# Altium integrated library NSC Switcher.IntLib: 922 symbols (part 13 of 24)
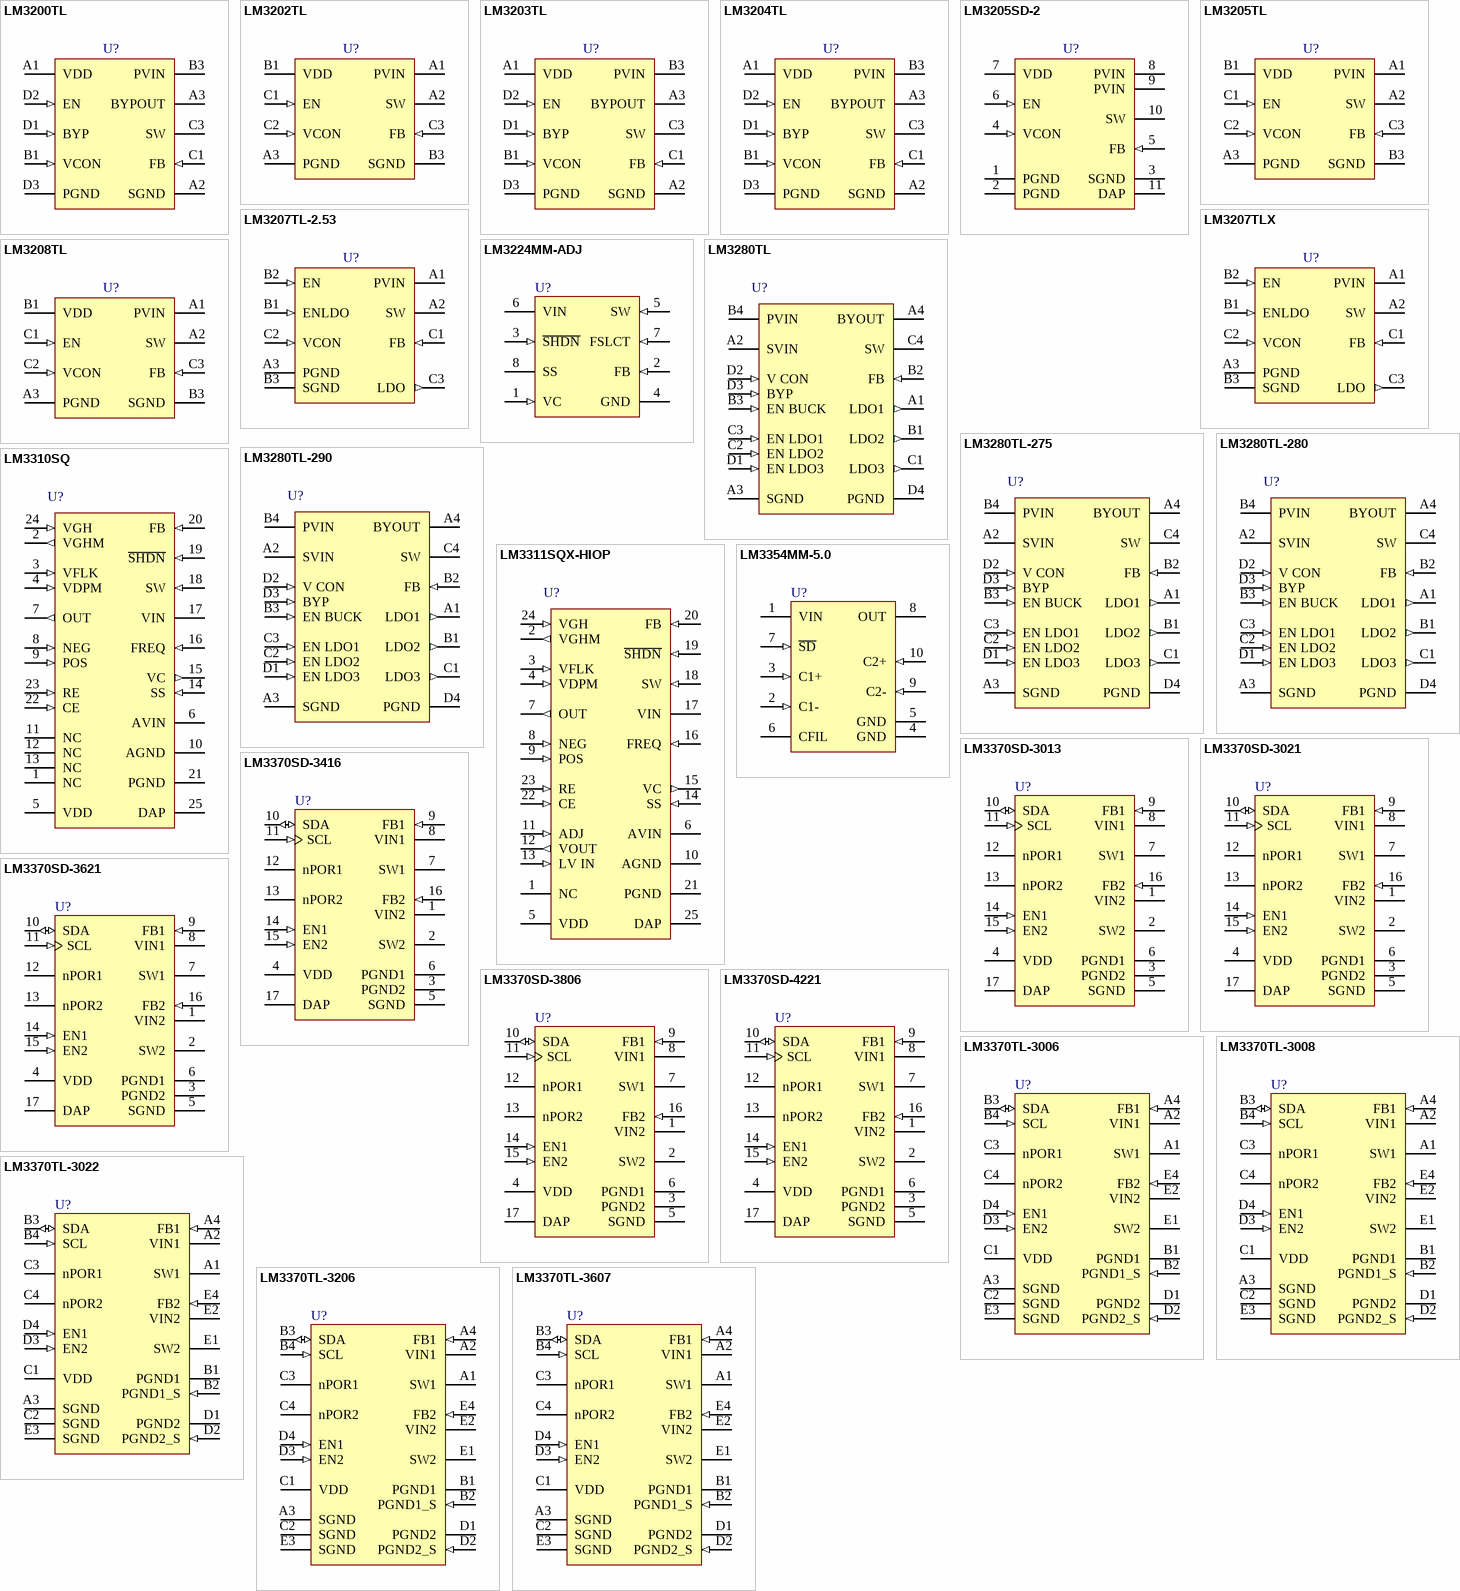
[diagram p40: symbols LM3200TL to LM3370TL-3607]

## LM3280TL-280
designator U?
Adjustable Step-Down DC-DC Converter and 3 LDOs for RF Power Management; PartNumber: LM3280TL-280; Manufacturer: National Semiconductor; CompType: Switcher; PackageTopMarking: XYTT*I V003; FirstPublished: 4-Dec-2008; DatasheetVersion: Jan-2007; PackageVersion: revC, Jan-2004; PackageReference: TLA16QQA; Publisher: Altium Limited; PackageDescription: Thin Micro SMD, 16 Bump (Large), 0.5mm Pitch; RoHS: Y; PinCount: 16; DigiKeyPartNumber: LM3280TL-280CT-ND; Code_JEDEC: MO-211-DF; ComponentLink1Description: LM3280 Datasheet; ComponentLink1URL: http://www.national.com/ds/LM/LM3280.pdf; ComponentLink2Description: LM3280 Web Page; ComponentLink2URL: http://www.national.com/pf/LM/LM3280.html; ComponentLink3Description: TLA16QQA Package Drawing; ComponentLink3URL: http://www.national.com/packaging/folders/tla16qqa.html
footprint TLA16QQA (Micro SMD, 16-Leads, Body 2.35x2.35mm, Pitch 0.5mm, NSC Recommended)
pins: A1 LDO1 (out), A2 SVIN (power), A3 SGND (power), A4 BYOUT (oc), B1 LDO2 (out), B2 FB (in), B3 EN BUCK (in), B4 PVIN (power), C1 LDO3 (out), C2 EN LDO2 (in), C3 EN LDO1 (in), C4 SW (power), D1 EN LDO3 (in), D2 V CON (in), D3 BYP (in), D4 PGND (power)

## LM3280TL-290
designator U?
Adjustable Step-Down DC-DC Converter and 3 LDOs for RF Power Management; PartNumber: LM3280TL-290; Manufacturer: National Semiconductor; CompType: Switcher; PackageTopMarking: XYTT*I V004; FirstPublished: 4-Dec-2008; DatasheetVersion: Jan-2007; PackageVersion: revC, Jan-2004; PackageReference: TLA16QQA; Publisher: Altium Limited; PackageDescription: Thin Micro SMD, 16 Bump (Large), 0.5mm Pitch; RoHS: Y; PinCount: 16; DigiKeyPartNumber: LM3280TL-290CT-ND; Code_JEDEC: MO-211-DF; ComponentLink1Description: LM3280 Datasheet; ComponentLink1URL: http://www.national.com/ds/LM/LM3280.pdf; ComponentLink2Description: LM3280 Web Page; ComponentLink2URL: http://www.national.com/pf/LM/LM3280.html; ComponentLink3Description: TLA16QQA Package Drawing; ComponentLink3URL: http://www.national.com/packaging/folders/tla16qqa.html
footprint TLA16QQA (Micro SMD, 16-Leads, Body 2.35x2.35mm, Pitch 0.5mm, NSC Recommended)
pins: A1 LDO1 (out), A2 SVIN (power), A3 SGND (power), A4 BYOUT (oc), B1 LDO2 (out), B2 FB (in), B3 EN BUCK (in), B4 PVIN (power), C1 LDO3 (out), C2 EN LDO2 (in), C3 EN LDO1 (in), C4 SW (power), D1 EN LDO3 (in), D2 V CON (in), D3 BYP (in), D4 PGND (power)

## LM3310SQ
designator U?
Step-Up PWM DC/DC Converter with Integrated Op-Amp and Gate Pulse Modulation Switch; PartNumber: LM3310SQ; Manufacturer: National Semiconductor; CompType: Switcher; PackageTopMarking: NS*UZXYTT*L3310SQ; FirstPublished: 4-Dec-2008; DatasheetVersion: Nov-2007; PackageVersion: revB, Aug-2003; PackageReference: SQA24A; Publisher: Altium Limited; PackageDescription: LLP, Plastic, Quad, 4 x 4 x 0.8mm Body, 24 Lead, 0.5mm Pitch, No Pullback; RoHS: Y; PinCount: 24; DigiKeyPartNumber: LM3310SQCT-ND; Code_JEDEC: MO-220-WGGD-6; ComponentLink1Description: LM3310 Datasheet; ComponentLink1URL: http://www.national.com/ds/LM/LM3310.pdf; ComponentLink2Description: LM3310 Web Page; ComponentLink2URL: http://www.national.com/pf/LM/LM3310.html; ComponentLink3Description: SQA24A Package Drawing; ComponentLink3URL: http://www.national.com/packaging/folders/sqa24a.html
footprint SQA24A (QFN, 24-Leads, Body 4x4mm, Pitch 0.5mm, NSC Recommended)
pins: 1 NC, 2 VGHM (out), 3 VFLK (in), 4 VDPM (in), 5 VDD (power), 6 AVIN (power), 7 OUT (out), 8 NEG (in), 9 POS (in), 10 AGND (power), 11 NC, 12 NC, 13 NC, 14 SS (in), 15 VC (out), 16 FREQ (in), 17 VIN (power), 18 SW (in), 19 ~{SHDN} (in), 20 FB (in), 21 PGND (power), 22 CE (in), 23 RE (in), 24 VGH (in), 25 DAP (power)

## LM3311SQX-HIOP
designator U?
Step-Up PWM DC/DC Converter with Integrated LDO, Op-Amp, and Gate Pulse Modulation Switch; PartNumber: LM3311SQX-HIOP; Manufacturer: National Semiconductor; CompType: Switcher; PackageTopMarking: NS*UZXYTT*L3311HP; FirstPublished: 4-Dec-2008; DatasheetVersion: Nov-2007; PackageVersion: revB, Aug-2003; PackageReference: SQA24A; Publisher: Altium Limited; PackageDescription: LLP, Plastic, Quad, 4 x 4 x 0.8mm Body, 24 Lead, 0.5mm Pitch, No Pullback; RoHS: Y; PinCount: 24; DigiKeyPartNumber: LM3311SQX-HIOP-ND; Code_JEDEC: MO-220-WGGD-6; ComponentLink1Description: LM3311 Datasheet; ComponentLink1URL: http://www.national.com/ds/LM/LM3311.pdf; ComponentLink2Description: LM3311 Web Page; ComponentLink2URL: http://www.national.com/pf/LM/LM3311.html; ComponentLink3Description: SQA24A Package Drawing; ComponentLink3URL: http://www.national.com/packaging/folders/sqa24a.html
footprint SQA24A (QFN, 24-Leads, Body 4x4mm, Pitch 0.5mm, NSC Recommended)
pins: 1 NC, 2 VGHM (out), 3 VFLK (in), 4 VDPM (in), 5 VDD (power), 6 AVIN (power), 7 OUT (out), 8 NEG (in), 9 POS (in), 10 AGND (power), 11 ADJ (in), 12 VOUT (out), 13 LV IN (in), 14 SS (in), 15 VC (out), 16 FREQ (in), 17 VIN (power), 18 SW (in), 19 ~{SHDN} (in), 20 FB (in), 21 PGND (power), 22 CE (in), 23 RE (in), 24 VGH (in), 25 DAP (power)

## LM3354MM-5.0
designator U?
Regulated 90mA Buck-Boost Switched Capacitor DC/DC Converter; PartNumber: LM3354MM-5.0; Manufacturer: National Semiconductor; CompType: Switcher; PackageTopMarking: ZXTT*S54B; FirstPublished: 4-Dec-2008; DatasheetVersion: Sep-2002; PackageVersion: revB, Jul-2003; PackageReference: MUB10A; Publisher: Altium Limited; PackageDescription: Mini-SO, Molded, .118 x .118 x .034in Body, 10 Lead, .0197in Pitch; RoHS: O; PinCount: 10; DigiKeyPartNumber: LM3354MM-5.0CT-ND; Code_JEDEC: MO-187-BA; ComponentLink1Description: LM3354 Datasheet; ComponentLink1URL: http://www.national.com/ds/LM/LM3354.pdf; ComponentLink2Description: LM3354 Web Page; ComponentLink2URL: http://www.national.com/pf/LM/LM3354.html; ComponentLink3Description: MUB10A Package Drawing; ComponentLink3URL: http://www.national.com/packaging/folders/mub10a.html
footprint MUB10A_N (TSSOP, 10-Leads, Body 3x3mm, Pitch 0.5mm, IPC Medium Density)
footprint MUB10A_L (TSSOP, 10-Leads, Body 3x3mm, Pitch 0.5mm, IPC High Density)
footprint MUB10A_M (TSSOP, 10-Leads, Body 3x3mm, Pitch 0.5mm, IPC Low Density)
pins: 1 VIN (power), 2 C1- (in), 3 C1+ (in), 4 GND (power), 5 GND (power), 6 CFIL, 7 ~{SD} (in), 8 OUT (power), 9 C2- (in), 10 C2+ (in)

## LM3370SD-3013
designator U?
Dual Synchronous Step-Down DC-DC Converter with Dynamic Voltage Scaling Function; PartNumber: LM3370SD-3013; Manufacturer: National Semiconductor; CompType: Switcher; PackageTopMarking: NS*UZXYTT*S0003UB; FirstPublished: 4-Dec-2008; DatasheetVersion: Jan-2008; PackageVersion: revA, Dec-2004; PackageReference: SDA16B; Publisher: Altium Limited; PackageDescription: LLP, Plastic, Dual, 5 x 4 x 0.8mm, 16 Lead, 0.5mm Pitch, No Pullback; RoHS: Y; PinCount: 16; DigiKeyPartNumber: LM3370SD-3013CT-ND; ComponentLink1Description: LM3370 Datasheet; ComponentLink1URL: http://www.national.com/ds/LM/LM3370.pdf; ComponentLink2Description: LM3370 Web Page; ComponentLink2URL: http://www.national.com/pf/LM/LM3370.html; ComponentLink3Description: SDA16B Package Drawing; ComponentLink3URL: http://www.national.com/packaging/folders/sda16b.html
footprint SDA16B (SON, 16-Leads, Body 5x4mm, Pitch 0.5mm, NSC Recommended)
pins: 1 VIN2 (power) "Power supply voltage input to PFET and NFET switches for Buck 2", 2 SW2 (power) "Buck 2 Switch Pin", 3 PGND2 (power) "Buck 2 Power Ground", 4 VDD (power) "Signal supply voltage input, VDDmust be equal or greater of the two inputs (VIN1& VIN2)", 5 SGND (power) "Signal GND", 6 PGND1 (power) "Buck 1 Power Ground", 7 SW1 (power) "Buck 1 Switch Pin", 8 VIN1 (power) "Power supply voltage input to PFET and NFET switches for Buck 1", 9 FB1 (in) "Analog Feedback Input for Buck 1", 10 SDA (io) "I2C Compatible Data, a 2 kOhm pull up resistor is required", 11 SCL (in) "I2C Compatible Clock, a 2 kOhm pull up resistor is required", 12 nPOR1 (oc) "Power ON Reset for Buck 1, Open drain output Low when Buck 1 output is 92% of target output.", 13 nPOR2 (oc) "Power ON Reset for Buck 2, Open drain output Low when Buck 2 output is 92% of target output.", 14 EN1 (in) "Buck 1 Enable", 15 EN2 (in) "Buck 2 Enable", 16 FB2 (in) "Analog feedback for Buck 2", 17 DAP (power)

## LM3370SD-3021
designator U?
Dual Synchronous Step-Down DC-DC Converter with Dynamic Voltage Scaling Function; PartNumber: LM3370SD-3021; Manufacturer: National Semiconductor; CompType: Switcher; PackageTopMarking: NS*UZXYTT*S0003TB; FirstPublished: 4-Dec-2008; DatasheetVersion: Jan-2008; PackageVersion: revA, Dec-2004; PackageReference: SDA16B; Publisher: Altium Limited; PackageDescription: LLP, Plastic, Dual, 5 x 4 x 0.8mm, 16 Lead, 0.5mm Pitch, No Pullback; RoHS: Y; PinCount: 16; DigiKeyPartNumber: LM3370SD-3021EV-ND; ComponentLink1Description: LM3370 Datasheet; ComponentLink1URL: http://www.national.com/ds/LM/LM3370.pdf; ComponentLink2Description: LM3370 Web Page; ComponentLink2URL: http://www.national.com/pf/LM/LM3370.html; ComponentLink3Description: SDA16B Package Drawing; ComponentLink3URL: http://www.national.com/packaging/folders/sda16b.html
footprint SDA16B (SON, 16-Leads, Body 5x4mm, Pitch 0.5mm, NSC Recommended)
pins: 1 VIN2 (power) "Power supply voltage input to PFET and NFET switches for Buck 2", 2 SW2 (power) "Buck 2 Switch Pin", 3 PGND2 (power) "Buck 2 Power Ground", 4 VDD (power) "Signal supply voltage input, VDDmust be equal or greater of the two inputs (VIN1& VIN2)", 5 SGND (power) "Signal GND", 6 PGND1 (power) "Buck 1 Power Ground", 7 SW1 (power) "Buck 1 Switch Pin", 8 VIN1 (power) "Power supply voltage input to PFET and NFET switches for Buck 1", 9 FB1 (in) "Analog Feedback Input for Buck 1", 10 SDA (io) "I2C Compatible Data, a 2 kOhm pull up resistor is required", 11 SCL (in) "I2C Compatible Clock, a 2 kOhm pull up resistor is required", 12 nPOR1 (oc) "Power ON Reset for Buck 1, Open drain output Low when Buck 1 output is 92% of target output.", 13 nPOR2 (oc) "Power ON Reset for Buck 2, Open drain output Low when Buck 2 output is 92% of target output.", 14 EN1 (in) "Buck 1 Enable", 15 EN2 (in) "Buck 2 Enable", 16 FB2 (in) "Analog feedback for Buck 2", 17 DAP (power)

## LM3370SD-3416
designator U?
Dual Synchronous Step-Down DC-DC Converter with Dynamic Voltage Scaling Function; PartNumber: LM3370SD-3416; Manufacturer: National Semiconductor; CompType: Switcher; PackageTopMarking: NS*UZXYTT*S0003VB; FirstPublished: 4-Dec-2008; DatasheetVersion: Jan-2008; PackageVersion: revA, Dec-2004; PackageReference: SDA16B; Publisher: Altium Limited; PackageDescription: LLP, Plastic, Dual, 5 x 4 x 0.8mm, 16 Lead, 0.5mm Pitch, No Pullback; RoHS: Y; PinCount: 16; DigiKeyPartNumber: LM3370SD-3416CT-ND; ComponentLink1Description: LM3370 Datasheet; ComponentLink1URL: http://www.national.com/ds/LM/LM3370.pdf; ComponentLink2Description: LM3370 Web Page; ComponentLink2URL: http://www.national.com/pf/LM/LM3370.html; ComponentLink3Description: SDA16B Package Drawing; ComponentLink3URL: http://www.national.com/packaging/folders/sda16b.html
footprint SDA16B (SON, 16-Leads, Body 5x4mm, Pitch 0.5mm, NSC Recommended)
pins: 1 VIN2 (power) "Power supply voltage input to PFET and NFET switches for Buck 2", 2 SW2 (power) "Buck 2 Switch Pin", 3 PGND2 (power) "Buck 2 Power Ground", 4 VDD (power) "Signal supply voltage input, VDDmust be equal or greater of the two inputs (VIN1& VIN2)", 5 SGND (power) "Signal GND", 6 PGND1 (power) "Buck 1 Power Ground", 7 SW1 (power) "Buck 1 Switch Pin", 8 VIN1 (power) "Power supply voltage input to PFET and NFET switches for Buck 1", 9 FB1 (in) "Analog Feedback Input for Buck 1", 10 SDA (io) "I2C Compatible Data, a 2 kOhm pull up resistor is required", 11 SCL (in) "I2C Compatible Clock, a 2 kOhm pull up resistor is required", 12 nPOR1 (oc) "Power ON Reset for Buck 1, Open drain output Low when Buck 1 output is 92% of target output.", 13 nPOR2 (oc) "Power ON Reset for Buck 2, Open drain output Low when Buck 2 output is 92% of target output.", 14 EN1 (in) "Buck 1 Enable", 15 EN2 (in) "Buck 2 Enable", 16 FB2 (in) "Analog feedback for Buck 2", 17 DAP (power)

## LM3370SD-3621
designator U?
Dual Synchronous Step-Down DC-DC Converter with Dynamic Voltage Scaling Function; PartNumber: LM3370SD-3621; Manufacturer: National Semiconductor; CompType: Switcher; PackageTopMarking: NS*UZXYTT*S0004AB; FirstPublished: 4-Dec-2008; DatasheetVersion: Jan-2008; PackageVersion: revA, Dec-2004; PackageReference: SDA16B; Publisher: Altium Limited; PackageDescription: LLP, Plastic, Dual, 5 x 4 x 0.8mm, 16 Lead, 0.5mm Pitch, No Pullback; RoHS: Y; PinCount: 16; DigiKeyPartNumber: LM3370SD-3621-ND; ComponentLink1Description: LM3370 Datasheet; ComponentLink1URL: http://www.national.com/ds/LM/LM3370.pdf; ComponentLink2Description: LM3370 Web Page; ComponentLink2URL: http://www.national.com/pf/LM/LM3370.html; ComponentLink3Description: SDA16B Package Drawing; ComponentLink3URL: http://www.national.com/packaging/folders/sda16b.html
footprint SDA16B (SON, 16-Leads, Body 5x4mm, Pitch 0.5mm, NSC Recommended)
pins: 1 VIN2 (power) "Power supply voltage input to PFET and NFET switches for Buck 2", 2 SW2 (power) "Buck 2 Switch Pin", 3 PGND2 (power) "Buck 2 Power Ground", 4 VDD (power) "Signal supply voltage input, VDDmust be equal or greater of the two inputs (VIN1& VIN2)", 5 SGND (power) "Signal GND", 6 PGND1 (power) "Buck 1 Power Ground", 7 SW1 (power) "Buck 1 Switch Pin", 8 VIN1 (power) "Power supply voltage input to PFET and NFET switches for Buck 1", 9 FB1 (in) "Analog Feedback Input for Buck 1", 10 SDA (io) "I2C Compatible Data, a 2 kOhm pull up resistor is required", 11 SCL (in) "I2C Compatible Clock, a 2 kOhm pull up resistor is required", 12 nPOR1 (oc) "Power ON Reset for Buck 1, Open drain output Low when Buck 1 output is 92% of target output.", 13 nPOR2 (oc) "Power ON Reset for Buck 2, Open drain output Low when Buck 2 output is 92% of target output.", 14 EN1 (in) "Buck 1 Enable", 15 EN2 (in) "Buck 2 Enable", 16 FB2 (in) "Analog feedback for Buck 2", 17 DAP (power)

## LM3370SD-3806
designator U?
Dual Synchronous Step-Down DC-DC Converter with Dynamic Voltage Scaling Function; PartNumber: LM3370SD-3806; Manufacturer: National Semiconductor; CompType: Switcher; PackageTopMarking: NS*UZXYTT*S0003XB; FirstPublished: 4-Dec-2008; DatasheetVersion: Jan-2008; PackageVersion: revA, Dec-2004; PackageReference: SDA16B; Publisher: Altium Limited; PackageDescription: LLP, Plastic, Dual, 5 x 4 x 0.8mm, 16 Lead, 0.5mm Pitch, No Pullback; RoHS: Y; PinCount: 16; DigiKeyPartNumber: LM3370SD-3806CT-ND; ComponentLink1Description: LM3370 Datasheet; ComponentLink1URL: http://www.national.com/ds/LM/LM3370.pdf; ComponentLink2Description: LM3370 Web Page; ComponentLink2URL: http://www.national.com/pf/LM/LM3370.html; ComponentLink3Description: SDA16B Package Drawing; ComponentLink3URL: http://www.national.com/packaging/folders/sda16b.html
footprint SDA16B (SON, 16-Leads, Body 5x4mm, Pitch 0.5mm, NSC Recommended)
pins: 1 VIN2 (power) "Power supply voltage input to PFET and NFET switches for Buck 2", 2 SW2 (power) "Buck 2 Switch Pin", 3 PGND2 (power) "Buck 2 Power Ground", 4 VDD (power) "Signal supply voltage input, VDDmust be equal or greater of the two inputs (VIN1& VIN2)", 5 SGND (power) "Signal GND", 6 PGND1 (power) "Buck 1 Power Ground", 7 SW1 (power) "Buck 1 Switch Pin", 8 VIN1 (power) "Power supply voltage input to PFET and NFET switches for Buck 1", 9 FB1 (in) "Analog Feedback Input for Buck 1", 10 SDA (io) "I2C Compatible Data, a 2 kOhm pull up resistor is required", 11 SCL (in) "I2C Compatible Clock, a 2 kOhm pull up resistor is required", 12 nPOR1 (oc) "Power ON Reset for Buck 1, Open drain output Low when Buck 1 output is 92% of target output.", 13 nPOR2 (oc) "Power ON Reset for Buck 2, Open drain output Low when Buck 2 output is 92% of target output.", 14 EN1 (in) "Buck 1 Enable", 15 EN2 (in) "Buck 2 Enable", 16 FB2 (in) "Analog feedback for Buck 2", 17 DAP (power)

## LM3370SD-4221
designator U?
Dual Synchronous Step-Down DC-DC Converter with Dynamic Voltage Scaling Function; PartNumber: LM3370SD-4221; Manufacturer: National Semiconductor; CompType: Switcher; PackageTopMarking: NS*UZXYTT*S0003YB; FirstPublished: 4-Dec-2008; DatasheetVersion: Jan-2008; PackageVersion: revA, Dec-2004; PackageReference: SDA16B; Publisher: Altium Limited; PackageDescription: LLP, Plastic, Dual, 5 x 4 x 0.8mm, 16 Lead, 0.5mm Pitch, No Pullback; RoHS: Y; PinCount: 16; DigiKeyPartNumber: LM3370SD-4221CT-ND; ComponentLink1Description: LM3370 Datasheet; ComponentLink1URL: http://www.national.com/ds/LM/LM3370.pdf; ComponentLink2Description: LM3370 Web Page; ComponentLink2URL: http://www.national.com/pf/LM/LM3370.html; ComponentLink3Description: SDA16B Package Drawing; ComponentLink3URL: http://www.national.com/packaging/folders/sda16b.html
footprint SDA16B (SON, 16-Leads, Body 5x4mm, Pitch 0.5mm, NSC Recommended)
pins: 1 VIN2 (power) "Power supply voltage input to PFET and NFET switches for Buck 2", 2 SW2 (power) "Buck 2 Switch Pin", 3 PGND2 (power) "Buck 2 Power Ground", 4 VDD (power) "Signal supply voltage input, VDDmust be equal or greater of the two inputs (VIN1& VIN2)", 5 SGND (power) "Signal GND", 6 PGND1 (power) "Buck 1 Power Ground", 7 SW1 (power) "Buck 1 Switch Pin", 8 VIN1 (power) "Power supply voltage input to PFET and NFET switches for Buck 1", 9 FB1 (in) "Analog Feedback Input for Buck 1", 10 SDA (io) "I2C Compatible Data, a 2 kOhm pull up resistor is required", 11 SCL (in) "I2C Compatible Clock, a 2 kOhm pull up resistor is required", 12 nPOR1 (oc) "Power ON Reset for Buck 1, Open drain output Low when Buck 1 output is 92% of target output.", 13 nPOR2 (oc) "Power ON Reset for Buck 2, Open drain output Low when Buck 2 output is 92% of target output.", 14 EN1 (in) "Buck 1 Enable", 15 EN2 (in) "Buck 2 Enable", 16 FB2 (in) "Analog feedback for Buck 2", 17 DAP (power)

## LM3370TL-3006
designator U?
Dual Synchronous Step-Down DC-DC Converter with Dynamic Voltage Scaling Function; PartNumber: LM3370TL-3006; Manufacturer: National Semiconductor; CompType: Switcher; PackageTopMarking: XYTT*I SPUB; FirstPublished: 4-Dec-2008; DatasheetVersion: Jan-2008; PackageVersion: revD, 2008; PackageReference: TLA20CWA; Publisher: Altium Limited; PackageDescription: Thin Micro SMD, 20 Bump (Large), 0.5mm Pitch; RoHS: Y; PinCount: 20; DigiKeyPartNumber: LM3370TL-3006CT-ND; Code_JEDEC: MO-211-DG; ComponentLink1Description: LM3370 Datasheet; ComponentLink1URL: http://www.national.com/ds/LM/LM3370.pdf; ComponentLink2Description: LM3370 Web Page; ComponentLink2URL: http://www.national.com/pf/LM/LM3370.html; ComponentLink3Description: TLA20DWA Package Drawing; ComponentLink3URL: http://www.national.com/packaging/folders/tla20dwa.html
footprint TLA20CWA (Micro SMD, 20-Leads, Body 3x2.05mm, Pitch 0.5mm, NSC Recommended)
pins: A1 SW1 (power) "Buck 1 Switch Pin", A2 VIN1 (power) "Power supply voltage input to PFET and NFET switches for Buck 1", A3 SGND (power) "Signal GND", A4 FB1 (in) "Analog Feedback Input for Buck 1", B1 PGND1 (power) "Buck 1 Power Ground", B2 PGND1_S (in) "Buck 1 Power Ground Sense", B3 SDA (io) "I2C Compatible Data, a 2 kOhm pull up resistor is required", B4 SCL (in) "I2C Compatible Clock, a 2 kOhm pull up resistor is required", C1 VDD (power) "Signal supply voltage input.", C2 SGND (power) "Signal GND", C3 nPOR1 (oc) "Power ON Reset for Buck 1, Open drain output Low when Buck 1 output is 92% of target output.", C4 nPOR2 (oc) "Power ON Reset for Buck 2, Open drain output Low when Buck 2 output is 92% of target output.", D1 PGND2 (power) "Buck 2 Power Ground", D2 PGND2_S (in) "Buck 2 Power Ground Sense", D3 EN2 (in) "Buck 2 Enable", D4 EN1 (in) "Buck 1 Enable", E1 SW2 (power) "Buck 2 Switch Pin", E2 VIN2 (power) "Power supply voltage input to PFET and NFET switches for Buck 2", E3 SGND (power) "Signal GND", E4 FB2 (in) "Analog feedback for Buck 2"

## LM3370TL-3008
designator U?
Dual Synchronous Step-Down DC-DC Converter with Dynamic Voltage Scaling Function; PartNumber: LM3370TL-3008; Manufacturer: National Semiconductor; CompType: Switcher; PackageTopMarking: XYTT*I SPTB; FirstPublished: 4-Dec-2008; DatasheetVersion: Jan-2008; PackageVersion: revD, 2008; PackageReference: TLA20CWA; Publisher: Altium Limited; PackageDescription: Thin Micro SMD, 20 Bump (Large), 0.5mm Pitch; RoHS: Y; PinCount: 20; DigiKeyPartNumber: LM3370TL-3008EV-ND; Code_JEDEC: MO-211-DG; ComponentLink1Description: LM3370 Datasheet; ComponentLink1URL: http://www.national.com/ds/LM/LM3370.pdf; ComponentLink2Description: LM3370 Web Page; ComponentLink2URL: http://www.national.com/pf/LM/LM3370.html; ComponentLink3Description: TLA20DWA Package Drawing; ComponentLink3URL: http://www.national.com/packaging/folders/tla20dwa.html
footprint TLA20CWA (Micro SMD, 20-Leads, Body 3x2.05mm, Pitch 0.5mm, NSC Recommended)
pins: A1 SW1 (power) "Buck 1 Switch Pin", A2 VIN1 (power) "Power supply voltage input to PFET and NFET switches for Buck 1", A3 SGND (power) "Signal GND", A4 FB1 (in) "Analog Feedback Input for Buck 1", B1 PGND1 (power) "Buck 1 Power Ground", B2 PGND1_S (in) "Buck 1 Power Ground Sense", B3 SDA (io) "I2C Compatible Data, a 2 kOhm pull up resistor is required", B4 SCL (in) "I2C Compatible Clock, a 2 kOhm pull up resistor is required", C1 VDD (power) "Signal supply voltage input.", C2 SGND (power) "Signal GND", C3 nPOR1 (oc) "Power ON Reset for Buck 1, Open drain output Low when Buck 1 output is 92% of target output.", C4 nPOR2 (oc) "Power ON Reset for Buck 2, Open drain output Low when Buck 2 output is 92% of target output.", D1 PGND2 (power) "Buck 2 Power Ground", D2 PGND2_S (in) "Buck 2 Power Ground Sense", D3 EN2 (in) "Buck 2 Enable", D4 EN1 (in) "Buck 1 Enable", E1 SW2 (power) "Buck 2 Switch Pin", E2 VIN2 (power) "Power supply voltage input to PFET and NFET switches for Buck 2", E3 SGND (power) "Signal GND", E4 FB2 (in) "Analog feedback for Buck 2"

## LM3370TL-3022
designator U?
Dual Synchronous Step-Down DC-DC Converter with Dynamic Voltage Scaling Function; PartNumber: LM3370TL-3022; Manufacturer: National Semiconductor; CompType: Switcher; PackageTopMarking: XYTT*I STHB; FirstPublished: 4-Dec-2008; DatasheetVersion: Jan-2008; PackageVersion: revD, 2008; PackageReference: TLA20CWA; Publisher: Altium Limited; PackageDescription: Thin Micro SMD, 20 Bump (Large), 0.5mm Pitch; RoHS: Y; PinCount: 20; DigiKeyPartNumber: LM3370TL-3022CT-ND; Code_JEDEC: MO-211-DG; ComponentLink1Description: LM3370 Datasheet; ComponentLink1URL: http://www.national.com/ds/LM/LM3370.pdf; ComponentLink2Description: LM3370 Web Page; ComponentLink2URL: http://www.national.com/pf/LM/LM3370.html; ComponentLink3Description: TLA20DWA Package Drawing; ComponentLink3URL: http://www.national.com/packaging/folders/tla20dwa.html
footprint TLA20CWA (Micro SMD, 20-Leads, Body 3x2.05mm, Pitch 0.5mm, NSC Recommended)
pins: A1 SW1 (power) "Buck 1 Switch Pin", A2 VIN1 (power) "Power supply voltage input to PFET and NFET switches for Buck 1", A3 SGND (power) "Signal GND", A4 FB1 (in) "Analog Feedback Input for Buck 1", B1 PGND1 (power) "Buck 1 Power Ground", B2 PGND1_S (in) "Buck 1 Power Ground Sense", B3 SDA (io) "I2C Compatible Data, a 2 kOhm pull up resistor is required", B4 SCL (in) "I2C Compatible Clock, a 2 kOhm pull up resistor is required", C1 VDD (power) "Signal supply voltage input.", C2 SGND (power) "Signal GND", C3 nPOR1 (oc) "Power ON Reset for Buck 1, Open drain output Low when Buck 1 output is 92% of target output.", C4 nPOR2 (oc) "Power ON Reset for Buck 2, Open drain output Low when Buck 2 output is 92% of target output.", D1 PGND2 (power) "Buck 2 Power Ground", D2 PGND2_S (in) "Buck 2 Power Ground Sense", D3 EN2 (in) "Buck 2 Enable", D4 EN1 (in) "Buck 1 Enable", E1 SW2 (power) "Buck 2 Switch Pin", E2 VIN2 (power) "Power supply voltage input to PFET and NFET switches for Buck 2", E3 SGND (power) "Signal GND", E4 FB2 (in) "Analog feedback for Buck 2"

## LM3370TL-3206
designator U?
Dual Synchronous Step-Down DC-DC Converter with Dynamic Voltage Scaling Function; PartNumber: LM3370TL-3206; Manufacturer: National Semiconductor; CompType: Switcher; PackageTopMarking: XYTT*I SPXB; FirstPublished: 4-Dec-2008; DatasheetVersion: Jan-2008; PackageVersion: revD, 2008; PackageReference: TLA20CWA; Publisher: Altium Limited; PackageDescription: Thin Micro SMD, 20 Bump (Large), 0.5mm Pitch; RoHS: Y; PinCount: 20; DigiKeyPartNumber: LM3370TL-3206CT-ND; Code_JEDEC: MO-211-DG; ComponentLink1Description: LM3370 Datasheet; ComponentLink1URL: http://www.national.com/ds/LM/LM3370.pdf; ComponentLink2Description: LM3370 Web Page; ComponentLink2URL: http://www.national.com/pf/LM/LM3370.html; ComponentLink3Description: TLA20DWA Package Drawing; ComponentLink3URL: http://www.national.com/packaging/folders/tla20dwa.html
footprint TLA20CWA (Micro SMD, 20-Leads, Body 3x2.05mm, Pitch 0.5mm, NSC Recommended)
pins: A1 SW1 (power) "Buck 1 Switch Pin", A2 VIN1 (power) "Power supply voltage input to PFET and NFET switches for Buck 1", A3 SGND (power) "Signal GND", A4 FB1 (in) "Analog Feedback Input for Buck 1", B1 PGND1 (power) "Buck 1 Power Ground", B2 PGND1_S (in) "Buck 1 Power Ground Sense", B3 SDA (io) "I2C Compatible Data, a 2 kOhm pull up resistor is required", B4 SCL (in) "I2C Compatible Clock, a 2 kOhm pull up resistor is required", C1 VDD (power) "Signal supply voltage input.", C2 SGND (power) "Signal GND", C3 nPOR1 (oc) "Power ON Reset for Buck 1, Open drain output Low when Buck 1 output is 92% of target output.", C4 nPOR2 (oc) "Power ON Reset for Buck 2, Open drain output Low when Buck 2 output is 92% of target output.", D1 PGND2 (power) "Buck 2 Power Ground", D2 PGND2_S (in) "Buck 2 Power Ground Sense", D3 EN2 (in) "Buck 2 Enable", D4 EN1 (in) "Buck 1 Enable", E1 SW2 (power) "Buck 2 Switch Pin", E2 VIN2 (power) "Power supply voltage input to PFET and NFET switches for Buck 2", E3 SGND (power) "Signal GND", E4 FB2 (in) "Analog feedback for Buck 2"

## LM3370TL-3607
designator U?
Dual Synchronous Step-Down DC-DC Converter with Dynamic Voltage Scaling Function; PartNumber: LM3370TL-3607; Manufacturer: National Semiconductor; CompType: Switcher; PackageTopMarking: XYTT*I SPSB; FirstPublished: 4-Dec-2008; DatasheetVersion: Jan-2008; PackageVersion: revD, 2008; PackageReference: TLA20CWA; Publisher: Altium Limited; PackageDescription: Thin Micro SMD, 20 Bump (Large), 0.5mm Pitch; RoHS: Y; PinCount: 20; DigiKeyPartNumber: LM3370TL-3607CT-ND; Code_JEDEC: MO-211-DG; ComponentLink1Description: LM3370 Datasheet; ComponentLink1URL: http://www.national.com/ds/LM/LM3370.pdf; ComponentLink2Description: LM3370 Web Page; ComponentLink2URL: http://www.national.com/pf/LM/LM3370.html; ComponentLink3Description: TLA20DWA Package Drawing; ComponentLink3URL: http://www.national.com/packaging/folders/tla20dwa.html
footprint TLA20CWA (Micro SMD, 20-Leads, Body 3x2.05mm, Pitch 0.5mm, NSC Recommended)
pins: A1 SW1 (power) "Buck 1 Switch Pin", A2 VIN1 (power) "Power supply voltage input to PFET and NFET switches for Buck 1", A3 SGND (power) "Signal GND", A4 FB1 (in) "Analog Feedback Input for Buck 1", B1 PGND1 (power) "Buck 1 Power Ground", B2 PGND1_S (in) "Buck 1 Power Ground Sense", B3 SDA (io) "I2C Compatible Data, a 2 kOhm pull up resistor is required", B4 SCL (in) "I2C Compatible Clock, a 2 kOhm pull up resistor is required", C1 VDD (power) "Signal supply voltage input.", C2 SGND (power) "Signal GND", C3 nPOR1 (oc) "Power ON Reset for Buck 1, Open drain output Low when Buck 1 output is 92% of target output.", C4 nPOR2 (oc) "Power ON Reset for Buck 2, Open drain output Low when Buck 2 output is 92% of target output.", D1 PGND2 (power) "Buck 2 Power Ground", D2 PGND2_S (in) "Buck 2 Power Ground Sense", D3 EN2 (in) "Buck 2 Enable", D4 EN1 (in) "Buck 1 Enable", E1 SW2 (power) "Buck 2 Switch Pin", E2 VIN2 (power) "Power supply voltage input to PFET and NFET switches for Buck 2", E3 SGND (power) "Signal GND", E4 FB2 (in) "Analog feedback for Buck 2"

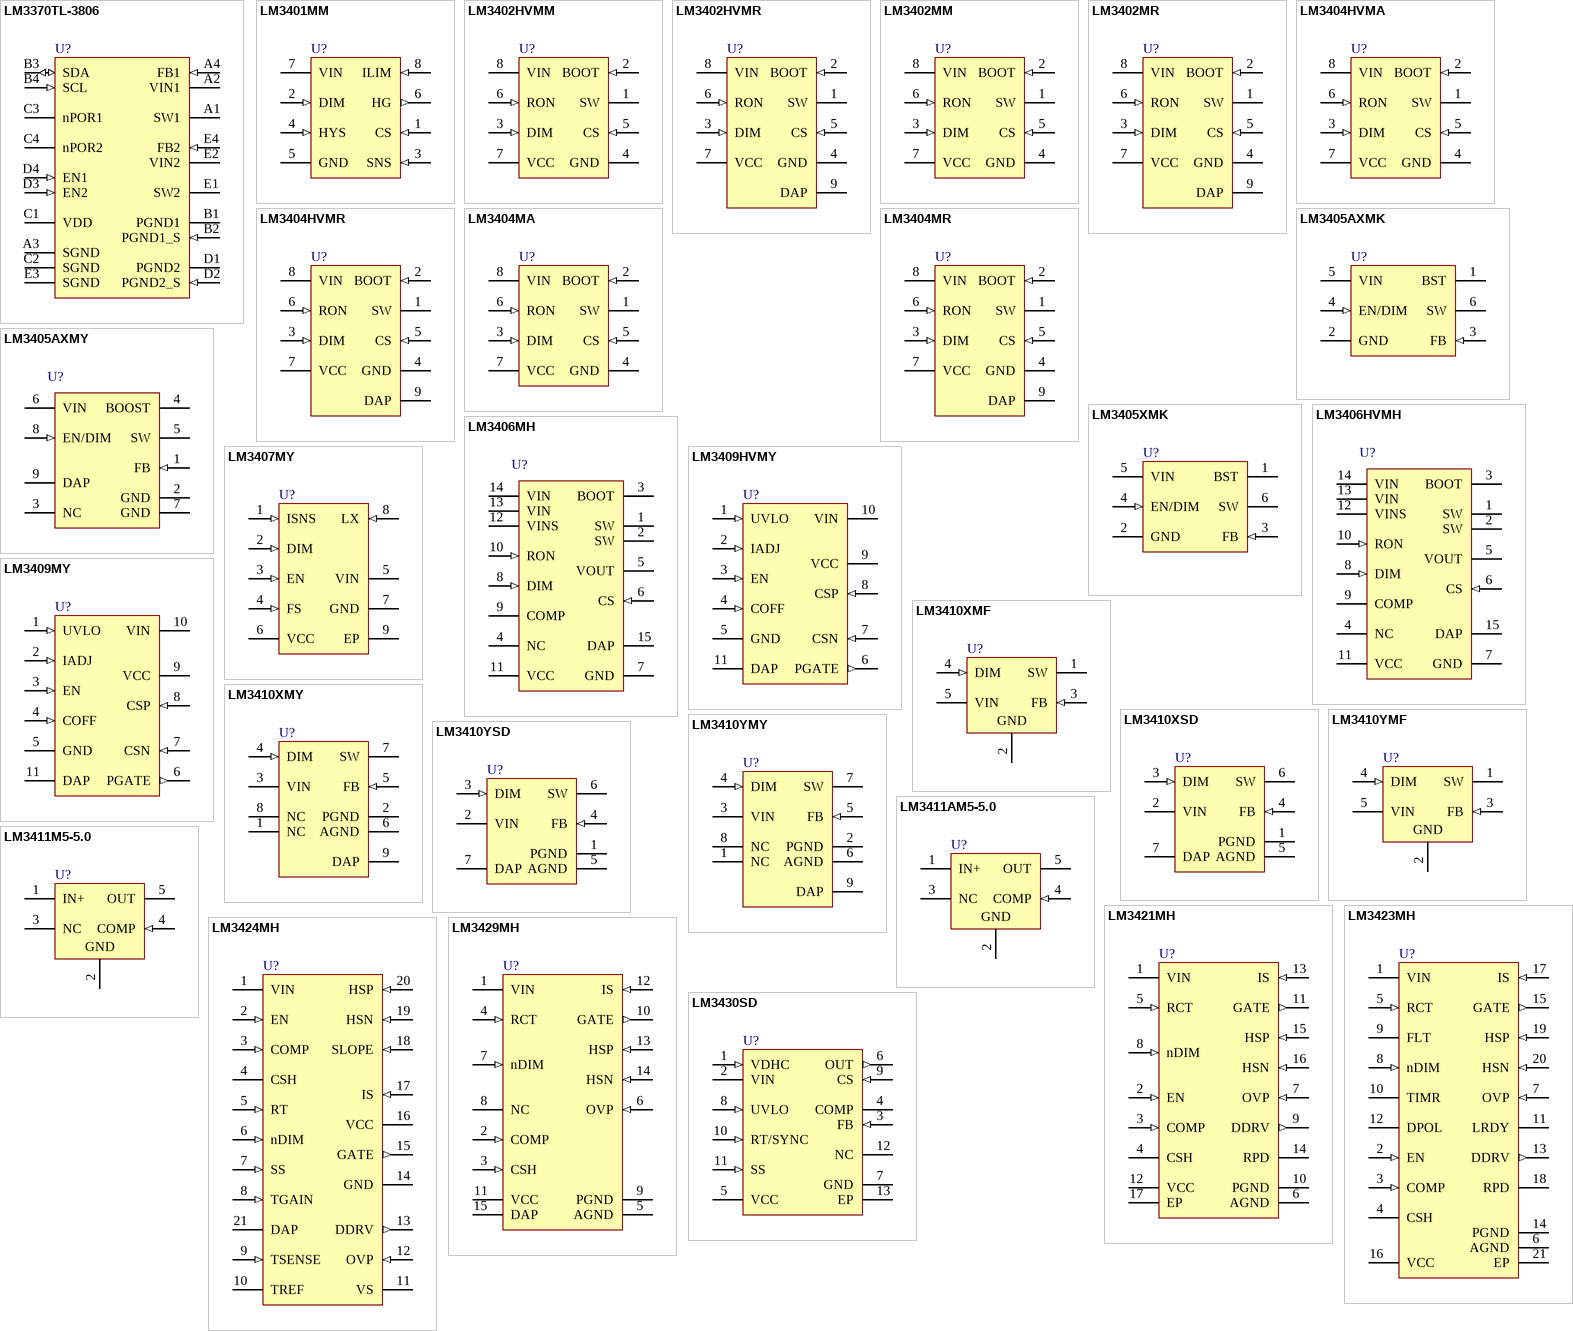
[diagram p15: symbols LM3370TL-3806 to LM3430SD]

## LM3370TL-3806
designator U?
Dual Synchronous Step-Down DC-DC Converter with Dynamic Voltage Scaling Function; PartNumber: LM3370TL-3806; Manufacturer: National Semiconductor; CompType: Switcher; PackageTopMarking: XYTT*I SPVB; FirstPublished: 4-Dec-2008; DatasheetVersion: Jan-2008; PackageVersion: revD, 2008; PackageReference: TLA20CWA; Publisher: Altium Limited; PackageDescription: Thin Micro SMD, 20 Bump (Large), 0.5mm Pitch; RoHS: Y; PinCount: 20; DigiKeyPartNumber: LM3370TL-3806CT-ND; Code_JEDEC: MO-211-DG; ComponentLink1Description: LM3370 Datasheet; ComponentLink1URL: http://www.national.com/ds/LM/LM3370.pdf; ComponentLink2Description: LM3370 Web Page; ComponentLink2URL: http://www.national.com/pf/LM/LM3370.html; ComponentLink3Description: TLA20DWA Package Drawing; ComponentLink3URL: http://www.national.com/packaging/folders/tla20dwa.html
footprint TLA20CWA (Micro SMD, 20-Leads, Body 3x2.05mm, Pitch 0.5mm, NSC Recommended)
pins: A1 SW1 (power) "Buck 1 Switch Pin", A2 VIN1 (power) "Power supply voltage input to PFET and NFET switches for Buck 1", A3 SGND (power) "Signal GND", A4 FB1 (in) "Analog Feedback Input for Buck 1", B1 PGND1 (power) "Buck 1 Power Ground", B2 PGND1_S (in) "Buck 1 Power Ground Sense", B3 SDA (io) "I2C Compatible Data, a 2 kOhm pull up resistor is required", B4 SCL (in) "I2C Compatible Clock, a 2 kOhm pull up resistor is required", C1 VDD (power) "Signal supply voltage input.", C2 SGND (power) "Signal GND", C3 nPOR1 (oc) "Power ON Reset for Buck 1, Open drain output Low when Buck 1 output is 92% of target output.", C4 nPOR2 (oc) "Power ON Reset for Buck 2, Open drain output Low when Buck 2 output is 92% of target output.", D1 PGND2 (power) "Buck 2 Power Ground", D2 PGND2_S (in) "Buck 2 Power Ground Sense", D3 EN2 (in) "Buck 2 Enable", D4 EN1 (in) "Buck 1 Enable", E1 SW2 (power) "Buck 2 Switch Pin", E2 VIN2 (power) "Power supply voltage input to PFET and NFET switches for Buck 2", E3 SGND (power) "Signal GND", E4 FB2 (in) "Analog feedback for Buck 2"

## LM3401MM
designator U?
Hysteretic PFET Controller for High Power LED Drive; PartNumber: LM3401MM; Manufacturer: National Semiconductor; CompType: Switcher; PackageTopMarking: ZXTT*SNHB; FirstPublished: 4-Dec-2008; DatasheetVersion: Mar-2008; PackageVersion: revF, Apr-2008; PackageReference: MUA08A; Publisher: Altium Limited; PackageDescription: MINI SOIC, .118 x .118 x .034in, 8 Lead, .0256in Pitch; RoHS: Y; PinCount: 8; DigiKeyPartNumber: LM3401MMCT-ND; Code_JEDEC: MO-187-AA; ComponentLink1Description: LM3401 Datasheet; ComponentLink1URL: http://www.national.com/ds/LM/LM3401.pdf; ComponentLink2Description: LM3401 Web Page; ComponentLink2URL: http://www.national.com/pf/LM/LM3401.html; ComponentLink3Description: MUA08A Package Drawing; ComponentLink3URL: http://www.national.com/packaging/folders/mua08a.html
footprint MUA08A_N (TSOP, 8-Leads, Body 3x3mm, Pitch 0.65mm, IPC Medium Density)
footprint MUA08A_L (TSOP, 8-Leads, Body 3x3mm, Pitch 0.65mm, IPC High Density)
footprint MUA08A_M (TSOP, 8-Leads, Body 3x3mm, Pitch 0.65mm, IPC Low Density)
pins: 1 CS (in), 2 DIM (in), 3 SNS (in), 4 HYS (in), 5 GND (power), 6 HG (out), 7 VIN (power), 8 ILIM (in)

## LM3402HVMM
designator U?
0.5A Constant Current Buck Regulator for High Power LED Drivers; PartNumber: LM3402HVMM; Manufacturer: National Semiconductor; CompType: Switcher; PackageTopMarking: ZXTT*SNFB; FirstPublished: 4-Dec-2008; DatasheetVersion: Jun-2007; PackageVersion: revF, Apr-2008; PackageReference: MUA08A; Publisher: Altium Limited; PackageDescription: MINI SOIC, .118 x .118 x .034in, 8 Lead, .0256in Pitch; RoHS: Y; PinCount: 8; DigiKeyPartNumber: LM3402HVMMCT-ND; Code_JEDEC: MO-187-AA; ComponentLink1Description: LM3402HV Datasheet; ComponentLink1URL: http://www.national.com/ds/LM/LM3402HV.pdf; ComponentLink2Description: LM3402HV Web Page; ComponentLink2URL: http://www.national.com/pf/LM/LM3402HV.html; ComponentLink3Description: MUA08A Package Drawing; ComponentLink3URL: http://www.national.com/packaging/folders/mua08a.html
footprint MUA08A_N (TSOP, 8-Leads, Body 3x3mm, Pitch 0.65mm, IPC Medium Density)
footprint MUA08A_L (TSOP, 8-Leads, Body 3x3mm, Pitch 0.65mm, IPC High Density)
footprint MUA08A_M (TSOP, 8-Leads, Body 3x3mm, Pitch 0.65mm, IPC Low Density)
pins: 1 SW (power), 2 BOOT (in), 3 DIM (in), 4 GND (power), 5 CS (in), 6 RON (in), 7 VCC (power), 8 VIN (power)

## LM3402HVMR
designator U?
0.5A Constant Current Buck Regulator for High Power LED Drivers; PartNumber: LM3402HVMR; Manufacturer: National Semiconductor; CompType: Switcher; PackageTopMarking: NSXYTT*L3402*HVMR; FirstPublished: 4-Dec-2008; DatasheetVersion: Jun-2007; PackageVersion: revB, Dec-2007; PackageReference: MRA08B; Publisher: Altium Limited; PackageDescription: Molded, PSOP .193 x .154 x .058in, 8 Lead, .050in Pitch, Large DAP; RoHS: Y; PinCount: 8; DigiKeyPartNumber: LM3402HVMR-ND; Code_JEDEC: MS-012-AA; ComponentLink1Description: LM3402HV Datasheet; ComponentLink1URL: http://www.national.com/ds/LM/LM3402HV.pdf; ComponentLink2Description: LM3402HV Web Page; ComponentLink2URL: http://www.national.com/pf/LM/LM3402HV.html; ComponentLink3Description: MRA08B Package Drawing; ComponentLink3URL: http://www.national.com/packaging/folders/mra08b.html
footprint MRA08B_N (SOIC, 8-Leads, Body 4.9x3.9mm, Pitch 1.27mm, Exposed Pad, IPC Medium Density)
footprint MRA08B_L (SOIC, 8-Leads, Body 4.9x3.9mm, Pitch 1.27mm, Exposed Pad, IPC High Density)
footprint MRA08B_M (SOIC, 8-Leads, Body 4.9x3.9mm, Pitch 1.27mm, Exposed Pad, IPC Low Density)
pins: 1 SW (power), 2 BOOT (in), 3 DIM (in), 4 GND (power), 5 CS (in), 6 RON (in), 7 VCC (power), 8 VIN (power), 9 DAP (power)

## LM3402MM
designator U?
0.5A Constant Current Buck Regulator for High Power LED Drivers; PartNumber: LM3402MM; Manufacturer: National Semiconductor; CompType: Switcher; PackageTopMarking: ZXTT*SNEB; FirstPublished: 4-Dec-2008; DatasheetVersion: Jun-2007; PackageVersion: revF, Apr-2008; PackageReference: MUA08A; Publisher: Altium Limited; PackageDescription: MINI SOIC, .118 x .118 x .034in, 8 Lead, .0256in Pitch; RoHS: Y; PinCount: 8; DigiKeyPartNumber: LM3402MMCT-ND; Code_JEDEC: MO-187-AA; ComponentLink1Description: LM3402 Datasheet; ComponentLink1URL: http://www.national.com/ds/LM/LM3402.pdf; ComponentLink2Description: LM3402 Web Page; ComponentLink2URL: http://www.national.com/pf/LM/LM3402.html; ComponentLink3Description: MUA08A Package Drawing; ComponentLink3URL: http://www.national.com/packaging/folders/mua08a.html
footprint MUA08A_N (TSOP, 8-Leads, Body 3x3mm, Pitch 0.65mm, IPC Medium Density)
footprint MUA08A_L (TSOP, 8-Leads, Body 3x3mm, Pitch 0.65mm, IPC High Density)
footprint MUA08A_M (TSOP, 8-Leads, Body 3x3mm, Pitch 0.65mm, IPC Low Density)
pins: 1 SW (power), 2 BOOT (in), 3 DIM (in), 4 GND (power), 5 CS (in), 6 RON (in), 7 VCC (power), 8 VIN (power)

## LM3402MR
designator U?
0.5A Constant Current Buck Regulator for High Power LED Drivers; PartNumber: LM3402MR; Manufacturer: National Semiconductor; CompType: Switcher; PackageTopMarking: NSXYTT*L3402*MR; FirstPublished: 4-Dec-2008; DatasheetVersion: Jun-2007; PackageVersion: revB, Dec-2007; PackageReference: MRA08B; Publisher: Altium Limited; PackageDescription: Molded, PSOP .193 x .154 x .058in, 8 Lead, .050in Pitch, Large DAP; RoHS: Y; PinCount: 8; DigiKeyPartNumber: LM3402MR-ND; Code_JEDEC: MS-012-AA; ComponentLink1Description: LM3402 Datasheet; ComponentLink1URL: http://www.national.com/ds/LM/LM3402.pdf; ComponentLink2Description: LM3402 Web Page; ComponentLink2URL: http://www.national.com/pf/LM/LM3402.html; ComponentLink3Description: MRA08B Package Drawing; ComponentLink3URL: http://www.national.com/packaging/folders/mra08b.html
footprint MRA08B_N (SOIC, 8-Leads, Body 4.9x3.9mm, Pitch 1.27mm, Exposed Pad, IPC Medium Density)
footprint MRA08B_L (SOIC, 8-Leads, Body 4.9x3.9mm, Pitch 1.27mm, Exposed Pad, IPC High Density)
footprint MRA08B_M (SOIC, 8-Leads, Body 4.9x3.9mm, Pitch 1.27mm, Exposed Pad, IPC Low Density)
pins: 1 SW (power), 2 BOOT (in), 3 DIM (in), 4 GND (power), 5 CS (in), 6 RON (in), 7 VCC (power), 8 VIN (power), 9 DAP (power)

## LM3404HVMA
designator U?
1.0A Constant Current Buck Regulator for High Power LED Drivers; PartNumber: LM3404HVMA; Manufacturer: National Semiconductor; CompType: Switcher; PackageTopMarking: NSZXTT*L3404*HVMA; FirstPublished: 4-Dec-2008; DatasheetVersion: Jun-2007; PackageVersion: revL, Sep-2006; PackageReference: M08A; Publisher: Altium Limited; PackageDescription: SOIC Narrow, 4.9 x 3.9 x 1.45mm, 8 Lead, 1.27mm Pitch; RoHS: Y; PinCount: 8; DigiKeyPartNumber: LM3404HVMA-ND; Code_JEDEC: MS-012-AA; Code_IPC: SOIC127P600-8; ComponentLink1Description: LM3404HV Datasheet; ComponentLink1URL: http://www.national.com/ds/LM/LM3404HV.pdf; ComponentLink2Description: LM3404HV Web Page; ComponentLink2URL: http://www.national.com/pf/LM/LM3404HV.html; ComponentLink3Description: M08A Package Drawing; ComponentLink3URL: http://www.national.com/packaging/folders/m08a.html
footprint M08A_N (SOIC, 8-Leads, Body 4.9x3.9mm, Pitch 1.27mm, IPC Medium Density)
footprint M08A_L (SOIC, 8-Leads, Body 4.9x3.9mm, Pitch 1.27mm, IPC High Density)
footprint M08A_M (SOIC, 8-Leads, Body 4.9x3.9mm, Pitch 1.27mm, IPC Low Density)
pins: 1 SW (power), 2 BOOT (in), 3 DIM (in), 4 GND (power), 5 CS (in), 6 RON (in), 7 VCC (power), 8 VIN (power)

## LM3404HVMR
designator U?
1.0A Constant Current Buck Regulator for High Power LED Drivers; PartNumber: LM3404HVMR; Manufacturer: National Semiconductor; CompType: Switcher; PackageTopMarking: NSXYTT*L3404*HVMR; FirstPublished: 4-Dec-2008; DatasheetVersion: Jun-2007; PackageVersion: revB, Dec-2007; PackageReference: MRA08B; Publisher: Altium Limited; PackageDescription: Molded, PSOP .193 x .154 x .058in, 8 Lead, .050in Pitch, Large DAP; RoHS: Y; PinCount: 8; DigiKeyPartNumber: LM3404HVMR-ND; Code_JEDEC: MS-012-AA; ComponentLink1Description: LM3404HV Datasheet; ComponentLink1URL: http://www.national.com/ds/LM/LM3404HV.pdf; ComponentLink2Description: LM3404HV Web Page; ComponentLink2URL: http://www.national.com/pf/LM/LM3404HV.html; ComponentLink3Description: MRA08B Package Drawing; ComponentLink3URL: http://www.national.com/packaging/folders/mra08b.html
footprint MRA08B_N (SOIC, 8-Leads, Body 4.9x3.9mm, Pitch 1.27mm, Exposed Pad, IPC Medium Density)
footprint MRA08B_L (SOIC, 8-Leads, Body 4.9x3.9mm, Pitch 1.27mm, Exposed Pad, IPC High Density)
footprint MRA08B_M (SOIC, 8-Leads, Body 4.9x3.9mm, Pitch 1.27mm, Exposed Pad, IPC Low Density)
pins: 1 SW (power), 2 BOOT (in), 3 DIM (in), 4 GND (power), 5 CS (in), 6 RON (in), 7 VCC (power), 8 VIN (power), 9 DAP (power)

## LM3404MA
designator U?
1.0A Constant Current Buck Regulator for High Power LED Drivers; PartNumber: LM3404MA; Manufacturer: National Semiconductor; CompType: Switcher; PackageTopMarking: NSZXTT*L3404*MA; FirstPublished: 4-Dec-2008; DatasheetVersion: Jun-2007; PackageVersion: revL, Sep-2006; PackageReference: M08A; Publisher: Altium Limited; PackageDescription: SOIC Narrow, 4.9 x 3.9 x 1.45mm, 8 Lead, 1.27mm Pitch; RoHS: Y; PinCount: 8; DigiKeyPartNumber: LM3404MACT-ND; Code_JEDEC: MS-012-AA; Code_IPC: SOIC127P600-8; ComponentLink1Description: LM3404 Datasheet; ComponentLink1URL: http://www.national.com/ds/LM/LM3404.pdf; ComponentLink2Description: LM3404 Web Page; ComponentLink2URL: http://www.national.com/pf/LM/LM3404.html; ComponentLink3Description: M08A Package Drawing; ComponentLink3URL: http://www.national.com/packaging/folders/m08a.html
footprint M08A_N (SOIC, 8-Leads, Body 4.9x3.9mm, Pitch 1.27mm, IPC Medium Density)
footprint M08A_L (SOIC, 8-Leads, Body 4.9x3.9mm, Pitch 1.27mm, IPC High Density)
footprint M08A_M (SOIC, 8-Leads, Body 4.9x3.9mm, Pitch 1.27mm, IPC Low Density)
pins: 1 SW (power), 2 BOOT (in), 3 DIM (in), 4 GND (power), 5 CS (in), 6 RON (in), 7 VCC (power), 8 VIN (power)

## LM3404MR
designator U?
1.0A Constant Current Buck Regulator for High Power LED Drivers; PartNumber: LM3404MR; Manufacturer: National Semiconductor; CompType: Switcher; PackageTopMarking: NSXYTT*L3404*MR; FirstPublished: 4-Dec-2008; DatasheetVersion: Jun-2007; PackageVersion: revB, Dec-2007; PackageReference: MRA08B; Publisher: Altium Limited; PackageDescription: Molded, PSOP .193 x .154 x .058in, 8 Lead, .050in Pitch, Large DAP; RoHS: Y; PinCount: 8; DigiKeyPartNumber: LM3404MR-ND; Code_JEDEC: MS-012-AA; ComponentLink1Description: LM3404 Datasheet; ComponentLink1URL: http://www.national.com/ds/LM/LM3404.pdf; ComponentLink2Description: LM3404 Web Page; ComponentLink2URL: http://www.national.com/pf/LM/LM3404.html; ComponentLink3Description: MRA08B Package Drawing; ComponentLink3URL: http://www.national.com/packaging/folders/mra08b.html
footprint MRA08B_N (SOIC, 8-Leads, Body 4.9x3.9mm, Pitch 1.27mm, Exposed Pad, IPC Medium Density)
footprint MRA08B_L (SOIC, 8-Leads, Body 4.9x3.9mm, Pitch 1.27mm, Exposed Pad, IPC High Density)
footprint MRA08B_M (SOIC, 8-Leads, Body 4.9x3.9mm, Pitch 1.27mm, Exposed Pad, IPC Low Density)
pins: 1 SW (power), 2 BOOT (in), 3 DIM (in), 4 GND (power), 5 CS (in), 6 RON (in), 7 VCC (power), 8 VIN (power), 9 DAP (power)

## LM3405AXMK
designator U?
1.6MHz, 1A Constant Current Buck LED Driver with Internal Compensation in Tiny SOT23 Package; PartNumber: LM3405AXMK; Manufacturer: National Semiconductor; CompType: Switcher; PackageTopMarking: SSEB*XTT; FirstPublished: 4-Dec-2008; DatasheetVersion: Oct-2008; PackageVersion: revD, Jul-2005; PackageReference: MK06A; Publisher: Altium Limited; PackageDescription: Molded TSOT, 2.97 x 1.65 x 0.87mm Body, 6 Lead, 0.95mm Pitch; RoHS: Y; PinCount: 6; DigiKeyPartNumber: LM3405AXMKCT-ND; Code_JEDEC: MO-193-AA; Code_IPC: SOT26A-6; ComponentLink1Description: LM3405A Datasheet; ComponentLink1URL: http://www.national.com/ds/LM/LM3405A.pdf; ComponentLink2Description: LM3405A Web Page; ComponentLink2URL: http://www.national.com/pf/LM/LM3405A.html; ComponentLink3Description: MK06A Package Drawing; ComponentLink3URL: http://www.national.com/packaging/folders/mk06a.html
footprint MK06A_N (SOT23, 6-Leads, Body 3.0x1.7mm, Pitch 0.95mm, Lead Span 2.9mm, IPC Medium Density)
footprint MK06A_L (SOT23, 6-Leads, Body 3.0x1.7mm, Pitch 0.95mm, Lead Span 2.9mm, IPC High Density)
footprint MK06A_M (SOT23, 6-Leads, Body 3.0x1.7mm, Pitch 0.95mm, Lead Span 2.9mm, IPC Low Density)
pins: 1 BST, 2 GND (power), 3 FB (in), 4 EN/DIM (in), 5 VIN (power), 6 SW (power)

## LM3405AXMY
designator U?
1.6MHz, 1A Constant Current Buck LED Driver with Internal Compensation in eMSOP Package; PartNumber: LM3405AXMY; Manufacturer: National Semiconductor; CompType: Switcher; PackageTopMarking: ZXTT*SVSA; PowerWise: N; FirstPublished: 4-Dec-2008; DatasheetVersion: Oct-2008; PackageVersion: revA, Nov-2003; PackageReference: MUY08A; Publisher: Altium Limited; PackageDescription: Molded Mini-SO, Exposed Pad, .118 x .118 x .034in Body, 8 Lead, .0256in Pitch; RoHS: Y; PinCount: 8; Code_JEDEC: MO-187-AA; ComponentLink1Description: LM3405A Datasheet; ComponentLink1URL: http://www.national.com/ds/LM/LM3405A.pdf; ComponentLink2Description: LM3405A Web Page; ComponentLink2URL: http://www.national.com/pf/LM/LM3405A.html; ComponentLink3Description: MUY08A Package Drawing; ComponentLink3URL: http://www.national.com/packaging/folders/muy08a.html
footprint MUY08A_N (TSOP, 8-Leads, Body 3x3mm, Pitch 0.65mm, Exposed Pad, IPC Medium Density)
footprint MUY08A_L (TSOP, 8-Leads, Body 3x3mm, Pitch 0.65mm, Exposed Pad, IPC High Density)
footprint MUY08A_M (TSOP, 8-Leads, Body 3x3mm, Pitch 0.65mm, Exposed Pad, IPC Low Density)
pins: 1 FB (in), 2 GND (power), 3 NC, 4 BOOST, 5 SW (power), 6 VIN (power), 7 GND (power), 8 EN/DIM (in), 9 DAP (power)

## LM3405XMK
designator U?
1.6MHz 1A Constant Current Buck Regulator for Powering LEDs; PartNumber: LM3405XMK; Manufacturer: National Semiconductor; CompType: Switcher; PackageTopMarking: SPNB*XTT; FirstPublished: 4-Dec-2008; DatasheetVersion: Feb-2007; PackageVersion: revD, Jul-2005; PackageReference: MK06A; Publisher: Altium Limited; PackageDescription: Molded TSOT, 2.97 x 1.65 x 0.87mm Body, 6 Lead, 0.95mm Pitch; RoHS: Y; PinCount: 6; DigiKeyPartNumber: LM3405XMKCT-ND; Code_JEDEC: MO-193-AA; Code_IPC: SOT26A-6; ComponentLink1Description: LM3405 Datasheet; ComponentLink1URL: http://www.national.com/ds/LM/LM3405.pdf; ComponentLink2Description: LM3405 Web Page; ComponentLink2URL: http://www.national.com/pf/LM/LM3405.html; ComponentLink3Description: MK06A Package Drawing; ComponentLink3URL: http://www.national.com/packaging/folders/mk06a.html
footprint MK06A_N (SOT23, 6-Leads, Body 3.0x1.7mm, Pitch 0.95mm, Lead Span 2.9mm, IPC Medium Density)
footprint MK06A_L (SOT23, 6-Leads, Body 3.0x1.7mm, Pitch 0.95mm, Lead Span 2.9mm, IPC High Density)
footprint MK06A_M (SOT23, 6-Leads, Body 3.0x1.7mm, Pitch 0.95mm, Lead Span 2.9mm, IPC Low Density)
pins: 1 BST, 2 GND (power), 3 FB (in), 4 EN/DIM (in), 5 VIN (power), 6 SW (power)

## LM3406HVMH
designator U?
1.5A Constant Current Buck Regulator for Driving High Power LEDs; PartNumber: LM3406HVMH; Manufacturer: National Semiconductor; CompType: Switcher; PackageTopMarking: NSUZXYTT*LM3406*HVMH; PowerWise: Y; FirstPublished: 4-Dec-2008; DatasheetVersion: Sep-2008; PackageVersion: revA, Feb-2003; PackageReference: MXA14A; Publisher: Altium Limited; PackageDescription: Molded TSSOP, JEDEC, Exposed Pad, 5.0 x 4.4 x 0.9mm Body, 14 Lead, 0.65mm Pitch; RoHS: Y; PinCount: 14; DigiKeyPartNumber: LM3406HVMH-ND; Code_JEDEC: MO-153-ABT-1; ComponentLink1Description: LM3406HV Datasheet; ComponentLink1URL: http://www.national.com/ds/LM/LM3406HV.pdf; ComponentLink2Description: LM3406HV Web Page; ComponentLink2URL: http://www.national.com/pf/LM/LM3406HV.html; ComponentLink3Description: MXA14A Package Drawing; ComponentLink3URL: http://www.national.com/packaging/folders/mxa14a.html
footprint MXA14A_N (TSOP, 14-Leads, Body 5x4.4mm, Pitch 0.65mm, Exposed Pad, IPC Medium Density)
footprint MXA14A_L (TSOP, 14-Leads, Body 5x4.4mm, Pitch 0.65mm, Exposed Pad, IPC High Density)
footprint MXA14A_M (TSOP, 14-Leads, Body 5x4.4mm, Pitch 0.65mm, Exposed Pad, IPC Low Density)
pins: 1 SW (power), 2 SW (power), 3 BOOT, 4 NC, 5 VOUT, 6 CS (in), 7 GND (power), 8 DIM (in), 9 COMP, 10 RON (in), 11 VCC (power), 12 VINS (power), 13 VIN (power), 14 VIN (power), 15 DAP (power)

## LM3406MH
designator U?
1.5A Constant Current Buck Regulator for Driving High Power LEDs; PartNumber: LM3406MH; Manufacturer: National Semiconductor; CompType: Switcher; PackageTopMarking: NSUZXYTT*LM3406*MH; PowerWise: Y; FirstPublished: 4-Dec-2008; DatasheetVersion: Sep-2008; PackageVersion: revA, Feb-2003; PackageReference: MXA14A; Publisher: Altium Limited; PackageDescription: Molded TSSOP, JEDEC, Exposed Pad, 5.0 x 4.4 x 0.9mm Body, 14 Lead, 0.65mm Pitch; RoHS: Y; PinCount: 14; DigiKeyPartNumber: LM3406MH-ND; Code_JEDEC: MO-153-ABT-1; ComponentLink1Description: LM3406 Datasheet; ComponentLink1URL: http://www.national.com/ds/LM/LM3406.pdf; ComponentLink2Description: LM3406 Web Page; ComponentLink2URL: http://www.national.com/pf/LM/LM3406.html; ComponentLink3Description: MXA14A Package Drawing; ComponentLink3URL: http://www.national.com/packaging/folders/mxa14a.html
footprint MXA14A_N (TSOP, 14-Leads, Body 5x4.4mm, Pitch 0.65mm, Exposed Pad, IPC Medium Density)
footprint MXA14A_L (TSOP, 14-Leads, Body 5x4.4mm, Pitch 0.65mm, Exposed Pad, IPC High Density)
footprint MXA14A_M (TSOP, 14-Leads, Body 5x4.4mm, Pitch 0.65mm, Exposed Pad, IPC Low Density)
pins: 1 SW (power), 2 SW (power), 3 BOOT, 4 NC, 5 VOUT, 6 CS (in), 7 GND (power), 8 DIM (in), 9 COMP, 10 RON (in), 11 VCC (power), 12 VINS (power), 13 VIN (power), 14 VIN (power), 15 DAP (power)

## LM3407MY
designator U?
350 mA, Constant Current Output Floating Buck Switching Converter for High Power LEDs; PartNumber: LM3407MY; Manufacturer: National Semiconductor; CompType: Switcher; PackageTopMarking: ZXTT*STZB; FirstPublished: 4-Dec-2008; DatasheetVersion: Jan-2008; PackageVersion: revA, Nov-2003; PackageReference: MUY08A; Publisher: Altium Limited; PackageDescription: Molded Mini-SO, Exposed Pad, .118 x .118 x .034in Body, 8 Lead, .0256in Pitch; RoHS: Y; PinCount: 8; DigiKeyPartNumber: LM3407MY-ND; Code_JEDEC: MO-187-AA; ComponentLink1Description: LM3407 Datasheet; ComponentLink1URL: http://www.national.com/ds/LM/LM3407.pdf; ComponentLink2Description: LM3407 Web Page; ComponentLink2URL: http://www.national.com/pf/LM/LM3407.html; ComponentLink3Description: MUY08A Package Drawing; ComponentLink3URL: http://www.national.com/packaging/folders/muy08a.html
footprint MUY08A_N (TSOP, 8-Leads, Body 3x3mm, Pitch 0.65mm, Exposed Pad, IPC Medium Density)
footprint MUY08A_L (TSOP, 8-Leads, Body 3x3mm, Pitch 0.65mm, Exposed Pad, IPC High Density)
footprint MUY08A_M (TSOP, 8-Leads, Body 3x3mm, Pitch 0.65mm, Exposed Pad, IPC Low Density)
pins: 1 ISNS (in), 2 DIM (in), 3 EN (in), 4 FS (in), 5 VIN (power), 6 VCC (power), 7 GND (power), 8 LX (in), 9 EP (power)